# EAGLE library part XR21V1414IM-0B-EB (library Exar_By_element14_Batch_1)
4-CH FULL-SPEED USB UART
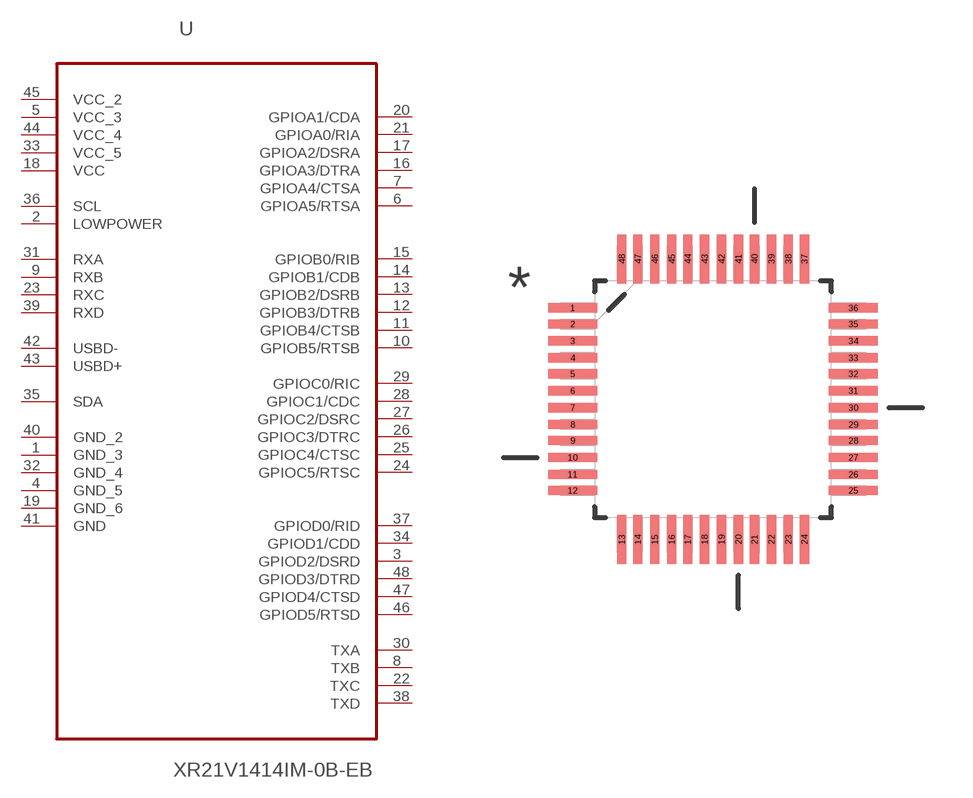
[diagram p78: symbol with the pads of QFP50P900X900X120-48N; footprint QFP50P900X900X120-48N]

Designator prefix U

## XR21V1414IM-0B-EB (MPN: XR21V1414IM-0B-EB; OC_FARNELL: 1971778; OC_NEWARK: 34T4750; PACKAGE: TQFP-48; SUPPLIER: EXAR)  [QFP50P900X900X120-48N]
1  GND_3  pas
2  LOWPOWER  in
3  GPIOD2/DSRD
4  GND_5  pas
5  VCC_3  pwr
6  GPIOA5/RTSA
7  GPIOA4/CTSA
8  TXB  out
9  RXB  in
10  GPIOB5/RTSB
11  GPIOB4/CTSB
12  GPIOB3/DTRB
13  GPIOB2/DSRB
14  GPIOB1/CDB
15  GPIOB0/RIB
16  GPIOA3/DTRA
17  GPIOA2/DSRA
18  VCC  pwr
19  GND_6  pas
20  GPIOA1/CDA
21  GPIOA0/RIA
22  TXC  out
23  RXC  in
24  GPIOC5/RTSC
25  GPIOC4/CTSC
26  GPIOC3/DTRC
27  GPIOC2/DSRC
28  GPIOC1/CDC
29  GPIOC0/RIC
30  TXA  out
31  RXA  in
32  GND_4  pas
33  VCC_5  pwr
34  GPIOD1/CDD
35  SDA
36  SCL  in
37  GPIOD0/RID
38  TXD  out
39  RXD  in
40  GND_2  pas
41  GND  pas
42  USBD-
43  USBD+
44  VCC_4  pwr
45  VCC_2  pwr
46  GPIOD5/RTSD
47  GPIOD4/CTSD
48  GPIOD3/DTRD

## Footprint QFP50P900X900X120-48N (pad centres in mm)
smd 1.473 x 0.279: 1 -4.216,2.743; 2 -4.216,2.261; 3 -4.216,1.753; 4 -4.216,1.245; 5 -4.216,0.762; 6 -4.216,0.254; 7 -4.216,-0.254; 8 -4.216,-0.762; 9 -4.216,-1.245; 10 -4.216,-1.753; 11 -4.216,-2.261; 12 -4.216,-2.743; 25 4.216,-2.743; 26 4.216,-2.261; 27 4.216,-1.753; 28 4.216,-1.245; 29 4.216,-0.762; 30 4.216,-0.254; 31 4.216,0.254; 32 4.216,0.762; 33 4.216,1.245; 34 4.216,1.753; 35 4.216,2.261; 36 4.216,2.743
smd 0.279 x 1.473: 13 -2.743,-4.216; 14 -2.261,-4.216; 15 -1.753,-4.216; 16 -1.245,-4.216; 17 -0.762,-4.216; 18 -0.254,-4.216; 19 0.254,-4.216; 20 0.762,-4.216; 21 1.245,-4.216; 22 1.753,-4.216; 23 2.261,-4.216; 24 2.743,-4.216; 37 2.743,4.216; 38 2.261,4.216; 39 1.753,4.216; 40 1.245,4.216; 41 0.762,4.216; 42 0.254,4.216; 43 -0.254,4.216; 44 -0.762,4.216; 45 -1.245,4.216; 46 -1.753,4.216; 47 -2.261,4.216; 48 -2.743,4.216